# EAGLE library part ATA662[3,5]C (library Atmel_AVR8)
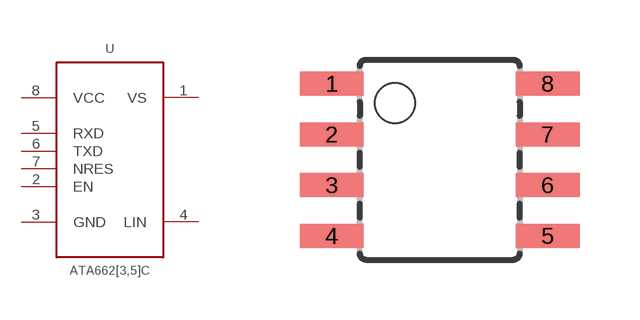
[diagram p8: symbol with the pads of 8S1; footprint 8S1]

Designator prefix U

## ATA662[3,5]C-GAQW  [8S1]
1  VS  pwr
2  EN  in
3  GND  pas
4  LIN
5  RXD  out
6  TXD  in
7  NRES  out
8  VCC  pwr

## Footprint 8S1 (pad centres in mm)
8-lead (0.150" Wide Body), Plastic Gull Wing Small Outline (JEDEC SOIC) Atmel PCB Mounting Guidelines for Surface Mount Packages, Page 7 <http://www.atmel.com/images/atmel-8826-seeprom-pcb-mounting-guidelines-surface-mount-packages-applicationnote.pdf#page=7>
smd 1.6 x 0.6: 1 -2.7,1.905; 2 -2.7,0.635; 3 -2.7,-0.635; 4 -2.7,-1.905; 5 2.7,-1.905; 6 2.7,-0.635; 7 2.7,0.635; 8 2.7,1.905